# EAGLE library part D1MINI (library USB Switch PCB)
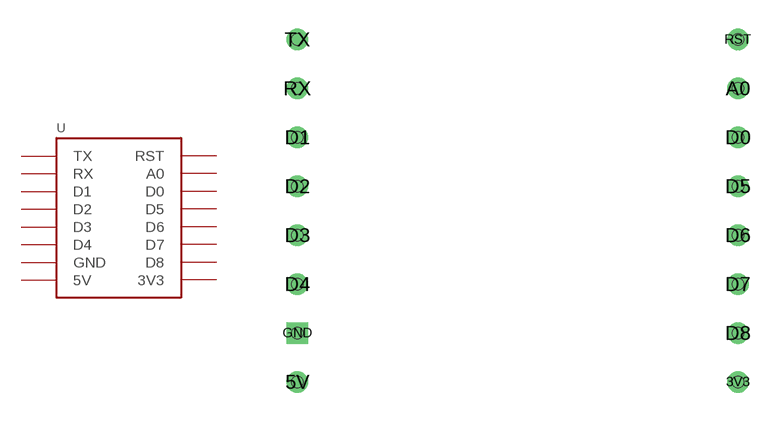
[diagram p1: symbol with the pads of D1MINI; footprint D1MINI]

Designator prefix U

## D1MINI  [D1MINI]
3V3  3V3
5V  5V
A0  A0
D0  D0
D1  D1
D2  D2
D3  D3
D4  D4
D5  D5
D6  D6
D7  D7
D8  D8
GND  GND
RST  RST
RX  RX
TX  TX

## Footprint D1MINI (pad centres in mm)
drill 0.6: 3V3 22.86,0; 5V 0,0; A0 22.86,15.24; D0 22.86,12.7; D1 0,12.7; D2 0,10.16; D3 0,7.62; D4 0,5.08; D5 22.86,10.16; D6 22.86,7.62; D7 22.86,5.08; D8 22.86,2.54; RST 22.86,17.78; RX 0,15.24; TX 0,17.78
drill 0.6 square: GND 0,2.54
hole 0.6 at 0,0
hole 0.6 at 0,2.54
hole 0.6 at 0,5.08
hole 0.6 at 0,7.62
hole 0.6 at 0,10.16
hole 0.6 at 0,12.7
hole 0.6 at 0,15.24
hole 0.6 at 0,17.78
hole 0.6 at 22.86,17.78
hole 0.6 at 22.86,15.24
hole 0.6 at 22.86,12.7
hole 0.6 at 22.86,10.16
hole 0.6 at 22.86,7.62
hole 0.6 at 22.86,5.08
hole 0.6 at 22.86,2.54
hole 0.6 at 22.86,0